# Altium schematic symbol library Intelliclone.SchLib: 488 symbols (part 6 of 6)
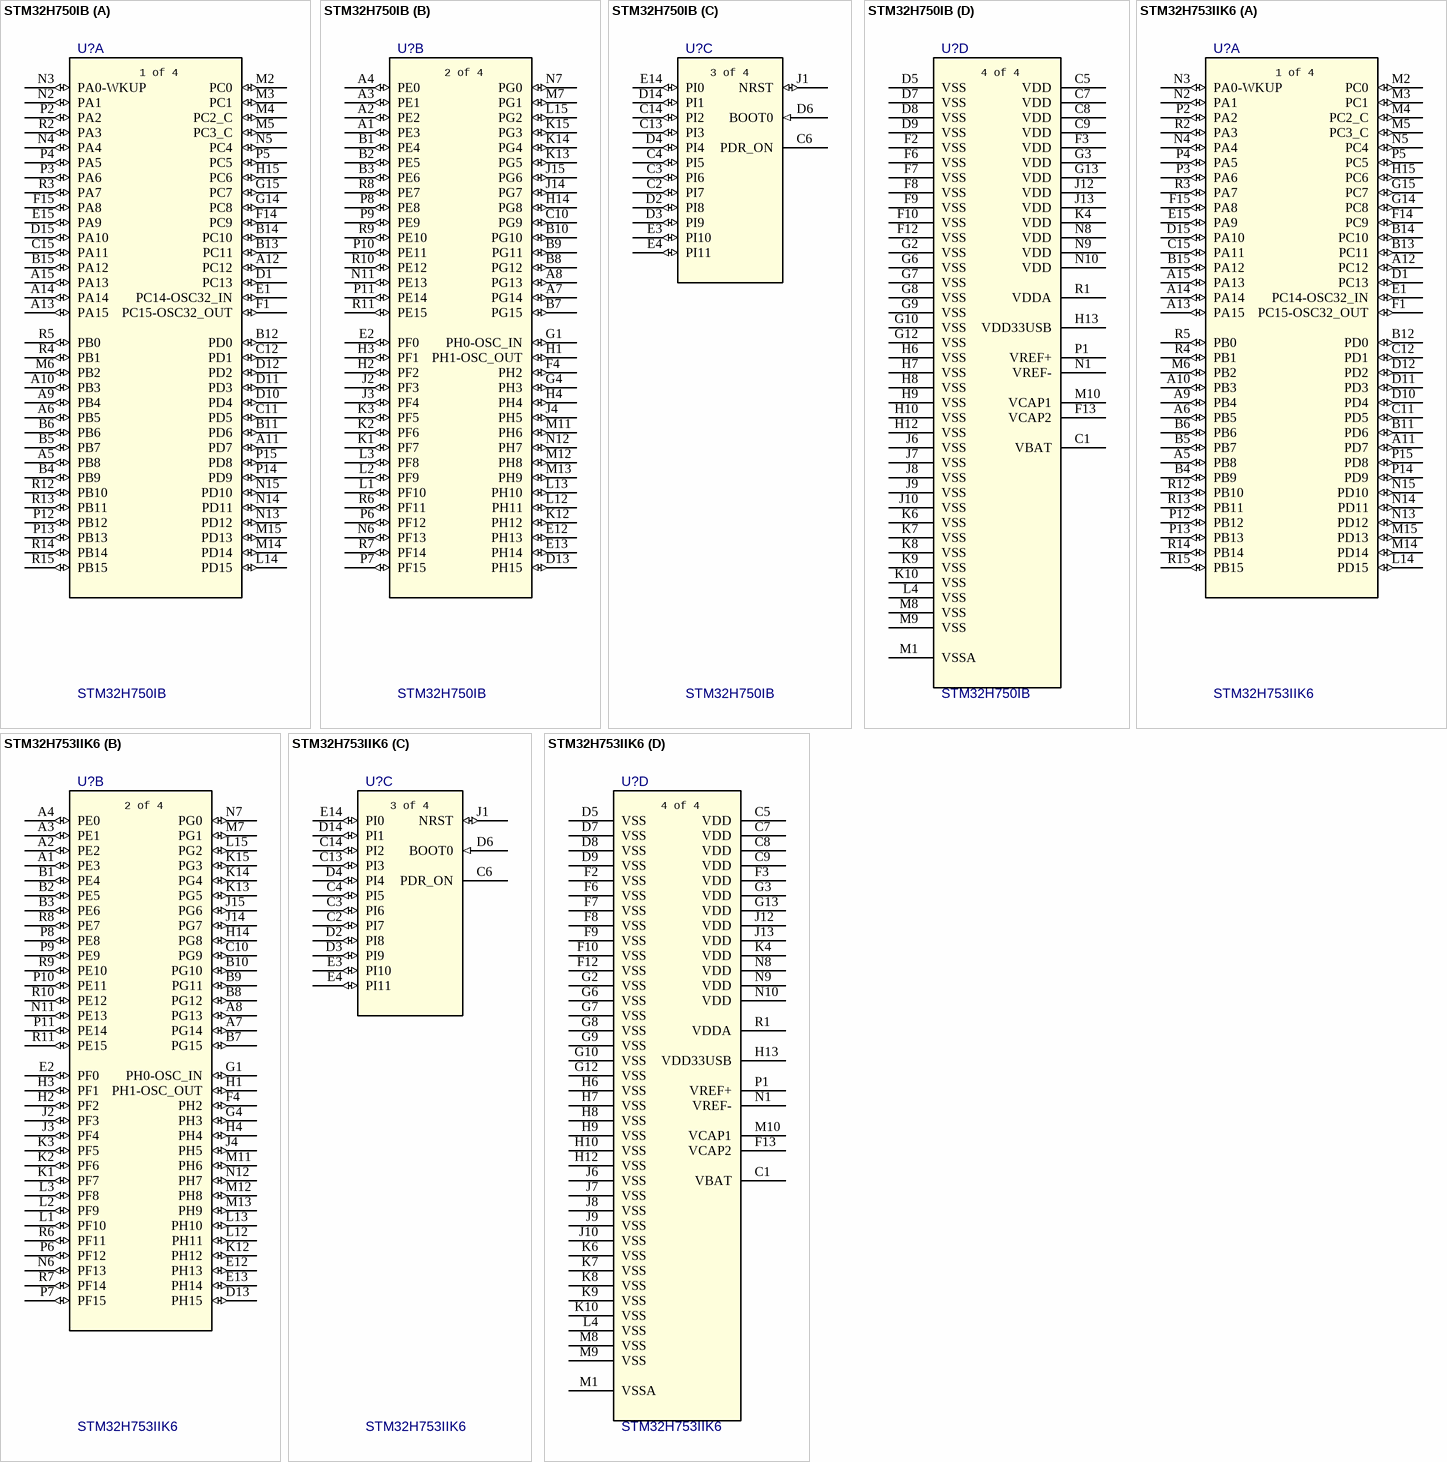
[diagram p26: symbols STM32H750IB to STM32H753IIK6]

## STM32H753IIK6
designator U?
MCU 32-bit ARM Cortex M7 RISC 2MB Flash 3.3V 201-Pin UFBGA; Manufacturer 1: ST Microelectronics; CMT Part Number: 100207; Value: STM32H753IIK6; Manufacturer Part Number 1: STM32H753IIK6; Supplier 1: Arrow; Supplier Part Number 1: STM32H753IIK6
footprint UFBGA 10X10 P 0_
part A pins: A5 PB8 (io), A6 PB5 (io), A9 PB4 (io), A10 PB3 (io), A11 PD7 (io), A12 PC12 (io), A13 PA15 (io), A14 PA14 (io), A15 PA13 (io), B4 PB9 (io), B5 PB7 (io), B6 PB6 (io), B11 PD6 (io), B12 PD0 (io), B13 PC11 (io), B14 PC10 (io), B15 PA12 (io), C11 PD5 (io), C12 PD1 (io), C15 PA11 (io), D1 PC13 (io), D10 PD4 (io), D11 PD3 (io), D12 PD2 (io), D15 PA10 (io), E1 PC14-OSC32_IN (io), E15 PA9 (io), F1 PC15-OSC32_OUT (io), F14 PC9 (io), F15 PA8 (io), G14 PC8 (io), G15 PC7 (io), H15 PC6 (io), L14 PD15 (io), M2 PC0 (io), M3 PC1 (io), M4 PC2_C (io), M5 PC3_C (io), M6 PB2 (io), M14 PD14 (io), M15 PD13 (io), N2 PA1 (io), N3 PA0-WKUP (io), N4 PA4 (io), N5 PC4 (io), N13 PD12 (io), N14 PD11 (io), N15 PD10 (io), P2 PA2 (io), P3 PA6 (io), P4 PA5 (io), P5 PC5 (io), P12 PB12 (io), P13 PB13 (io), P14 PD9 (io), P15 PD8 (io), R2 PA3 (io), R3 PA7 (io), R4 PB1 (io), R5 PB0 (io), R12 PB10 (io), R13 PB11 (io), R14 PB14 (io), R15 PB15 (io)
part B pins: A1 PE3 (io), A2 PE2 (io), A3 PE1 (io), A4 PE0 (io), A7 PG14 (io), A8 PG13 (io), B1 PE4 (io), B2 PE5 (io), B3 PE6 (io), B7 PG15 (io), B8 PG12 (io), B9 PG11 (io), B10 PG10 (io), C10 PG9 (io), D13 PH15 (io), E2 PF0 (io), E12 PH13 (io), E13 PH14 (io), F4 PH2 (io), G1 PH0-OSC_IN (io), G4 PH3 (io), H1 PH1-OSC_OUT (io), H2 PF2 (io), H3 PF1 (io), H4 PH4 (io), H14 PG8 (io), J2 PF3 (io), J3 PF4 (io), J4 PH5 (io), J14 PG7 (io), J15 PG6 (io), K1 PF7 (io), K2 PF6 (io), K3 PF5 (io), K12 PH12 (io), K13 PG5 (io), K14 PG4 (io), K15 PG3 (io), L1 PF10 (io), L2 PF9 (io), L3 PF8 (io), L12 PH11 (io), L13 PH10 (io), L15 PG2 (io), M7 PG1 (io), M11 PH6 (io), M12 PH8 (io), M13 PH9 (io), N6 PF13 (io), N7 PG0 (io), N11 PE13 (io), N12 PH7 (io), P6 PF12 (io), P7 PF15 (io), P8 PE8 (io), P9 PE9 (io), P10 PE11 (io), P11 PE14 (io), R6 PF11 (io), R7 PF14 (io), R8 PE7 (io), R9 PE10 (io), R10 PE12 (io), R11 PE15 (io)
part C pins: C2 PI7 (io), C3 PI6 (io), C4 PI5 (io), C6 PDR_ON, C13 PI3 (io), C14 PI2 (io), D2 PI8 (io), D3 PI9 (io), D4 PI4 (io), D6 BOOT0 (in), D14 PI1 (io), E3 PI10 (io), E4 PI11 (io), E14 PI0 (io), J1 NRST (io)
part D pins: C1 VBAT (power), C5 VDD (power), C7 VDD (power), C8 VDD (power), C9 VDD (power), D5 VSS (power), D7 VSS (power), D8 VSS (power), D9 VSS (power), F2 VSS (power), F3 VDD (power), F6 VSS (power), F7 VSS (power), F8 VSS (power), F9 VSS (power), F10 VSS (power), F12 VSS (power), F13 VCAP2 (power), G2 VSS (power), G3 VDD (power), G6 VSS (power), G7 VSS (power), G8 VSS (power), G9 VSS (power), G10 VSS (power), G12 VSS (power), G13 VDD (power), H6 VSS (power), H7 VSS (power), H8 VSS (power), H9 VSS (power), H10 VSS (power), H12 VSS (power), H13 VDD33USB (power), J6 VSS (power), J7 VSS (power), J8 VSS (power), J9 VSS (power), J10 VSS (power), J12 VDD (power), J13 VDD (power), K4 VDD (power), K6 VSS (power), K7 VSS (power), K8 VSS (power), K9 VSS (power), K10 VSS (power), L4 VSS (power), M1 VSSA (power), M8 VSS (power), M9 VSS (power), M10 VCAP1 (power), N1 VREF- (power), N8 VDD (power), N9 VDD (power), N10 VDD (power), P1 VREF+ (power), R1 VDDA (power)
part A text: 1 of 4
part B text: 2 of 4
part C text: 3 of 4
part D text: 4 of 4

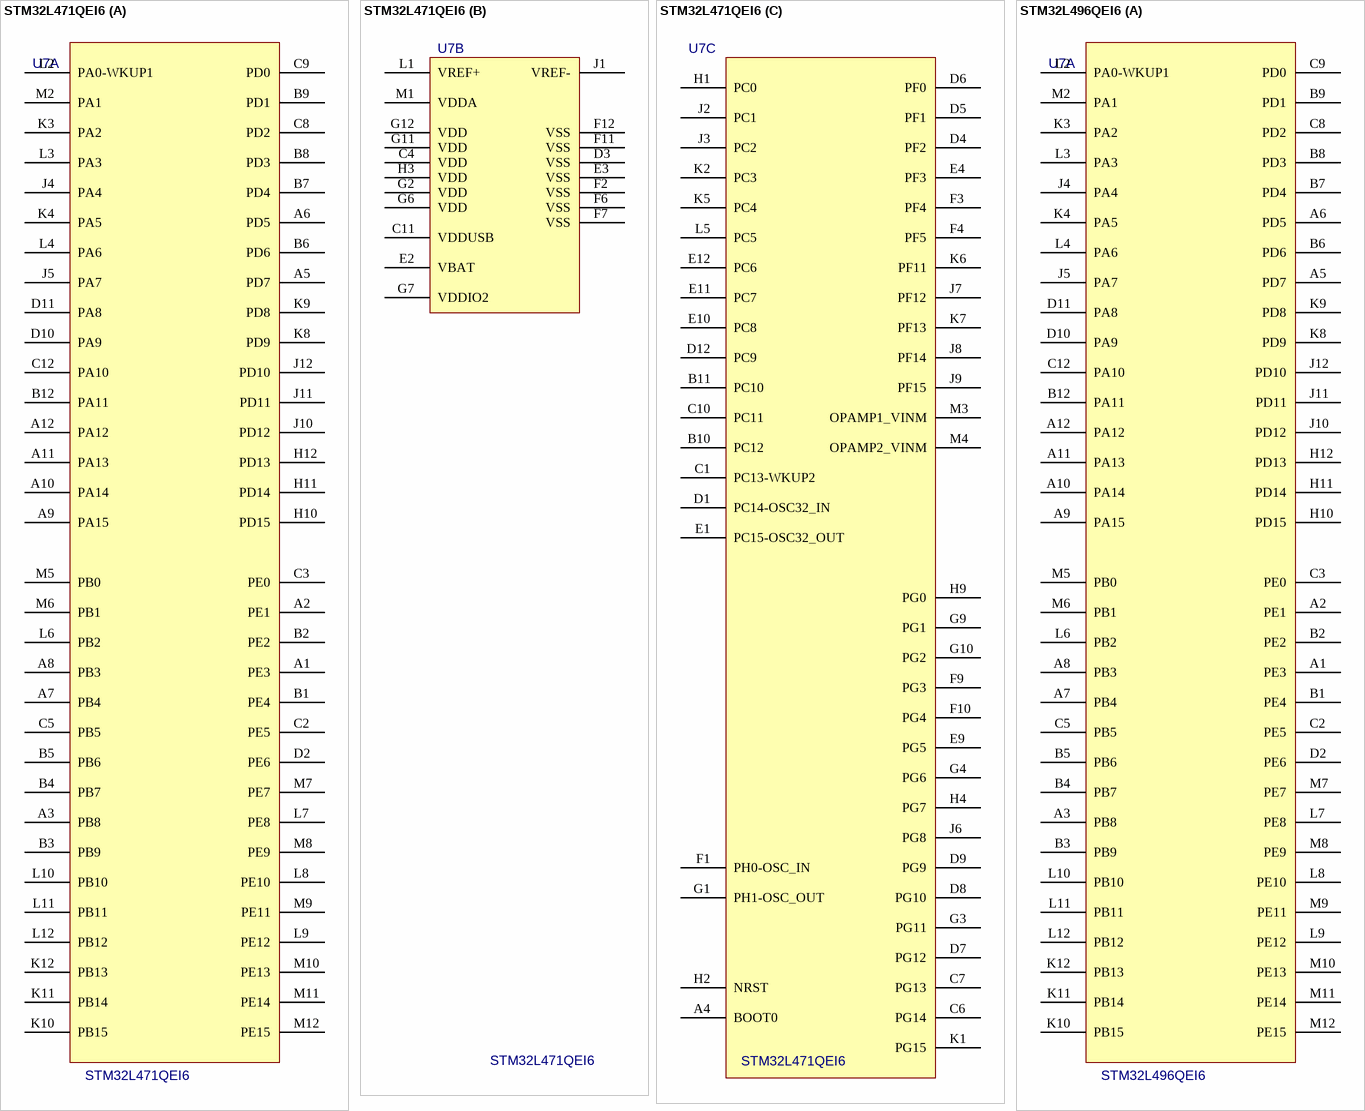
[diagram p18: symbols STM32L471QEI6 to STM32L496QEI6]

## STM32L471QEI6
designator U7
IC ULTRA-LOW-POWER WITH FPU ARM CORE; Manufacturer 1: ST; Manufacturer Part Number 1: STM32L471QEI6; Value: STM32L471QEI6; Supplier 1: Newark; Supplier Part Number 1: 79Y6021
footprint BGA132C50P12X12_700X700X60 (BGA, 132-Leads, Body 7.00x7.00mmx0.60mm, Pitch 0.50mm); pin to pad 1>B2 2>A1 3>B1 4>C2 5>D2 6>E2 7>C1 8>D1 9>E1 10>D6 11>D5 12>D4 13>E4 14>F3 15>F4 16>F2 17>G2 18>none 19>none 20>none 21>none 22>none 23>F1 24>G1 25>H2 26>H1 27>J2 28>J3 29>K2 30>none 31>J1 32>L1 33>M1 34>L2 35>M2 36>K3 37>L3 38>E3 39>H3 40>J4 41>K4 42>L4 43>J5 44>K5 45>L5 46>M5 47>M6 48>L6 49>K6 50>J7 51>none 52>none 53>K7 54>J8 55>J9 56>H9 57>G9 58>M7 59>PE8 60>PE9 61>F6 62>G6 63>L8 64>M9 65>L9 66>M10 67>M11 68>M12 69>L10 70>L11 71>F12 72>G12 73>L12 74>K12 75>K11 76>K10 77>K9 78>K8 79>J12 80>J11 81>J10 82>H12 83>none 84>none 85>H11 86>H10 87>G10 88>F9 89>F10 90>E9 91>G4 92>H4 93>J6 94>none 95>none 96>E12 97>E11 98>E10 99>D12 100>D11 101>D10 102>C12 103>B12 104>A12 105>A11 106>C11 107>F11 108>G11 109>A10 110>A9 111>B11 112>C10 113>B10 114>C9 115>B9 116>C8 117>B8 118>B7 119>A6 120>none 121>none 122>B6 123>A5 124>none 125>none 126>none 127>D7 128>C7 129>C6 130>F7 131>G7 132>K1 133>A8 134>A7 135>C5 136>B5 137>B4 138>A4 139>A3 140>B3 141>C3 142>A2 143>D3 144>C4
part A pins: A1 PE3, A2 PE1, A3 PB8, A5 PD7, A6 PD5, A7 PB4, A8 PB3, A9 PA15, A10 PA14, A11 PA13, A12 PA12, B1 PE4, B2 PE2, B3 PB9, B4 PB7, B5 PB6, B6 PD6, B7 PD4, B8 PD3, B9 PD1, B12 PA11, C2 PE5, C3 PE0, C5 PB5, C8 PD2, C9 PD0, C12 PA10, D2 PE6, D10 PA9, D11 PA8, H10 PD15, H11 PD14, H12 PD13, J4 PA4, J5 PA7, J10 PD12, J11 PD11, J12 PD10, K3 PA2, K4 PA5, K8 PD9, K9 PD8, K10 PB15, K11 PB14, K12 PB13, L2 PA0-WKUP1, L3 PA3, L4 PA6, L6 PB2, L7 PE8, L8 PE10, L9 PE12, L10 PB10, L11 PB11, L12 PB12, M2 PA1, M5 PB0, M6 PB1, M7 PE7, M8 PE9, M9 PE11, M10 PE13, M11 PE14, M12 PE15
part B pins: C4 VDD, C11 VDDUSB, D3 VSS, E2 VBAT, E3 VSS, F2 VSS, F6 VSS, F7 VSS, F11 VSS, F12 VSS, G2 VDD, G6 VDD, G7 VDDIO2, G11 VDD, G12 VDD, H3 VDD, J1 VREF-, L1 VREF+, M1 VDDA
part C pins: A4 BOOT0, B10 PC12, B11 PC10, C1 PC13-WKUP2, C6 PG14, C7 PG13, C10 PC11, D1 PC14-OSC32_IN, D4 PF2, D5 PF1, D6 PF0, D7 PG12, D8 PG10, D9 PG9, D12 PC9, E1 PC15-OSC32_OUT, E4 PF3, E9 PG5, E10 PC8, E11 PC7, E12 PC6, F1 PH0-OSC_IN, F3 PF4, F4 PF5, F9 PG3, F10 PG4, G1 PH1-OSC_OUT, G3 PG11, G4 PG6, G9 PG1, G10 PG2, H1 PC0, H2 NRST, H4 PG7, H9 PG0, J2 PC1, J3 PC2, J6 PG8, J7 PF12, J8 PF14, J9 PF15, K1 PG15, K2 PC3, K5 PC4, K6 PF11, K7 PF13, L5 PC5, M3 OPAMP1_VINM, M4 OPAMP2_VINM

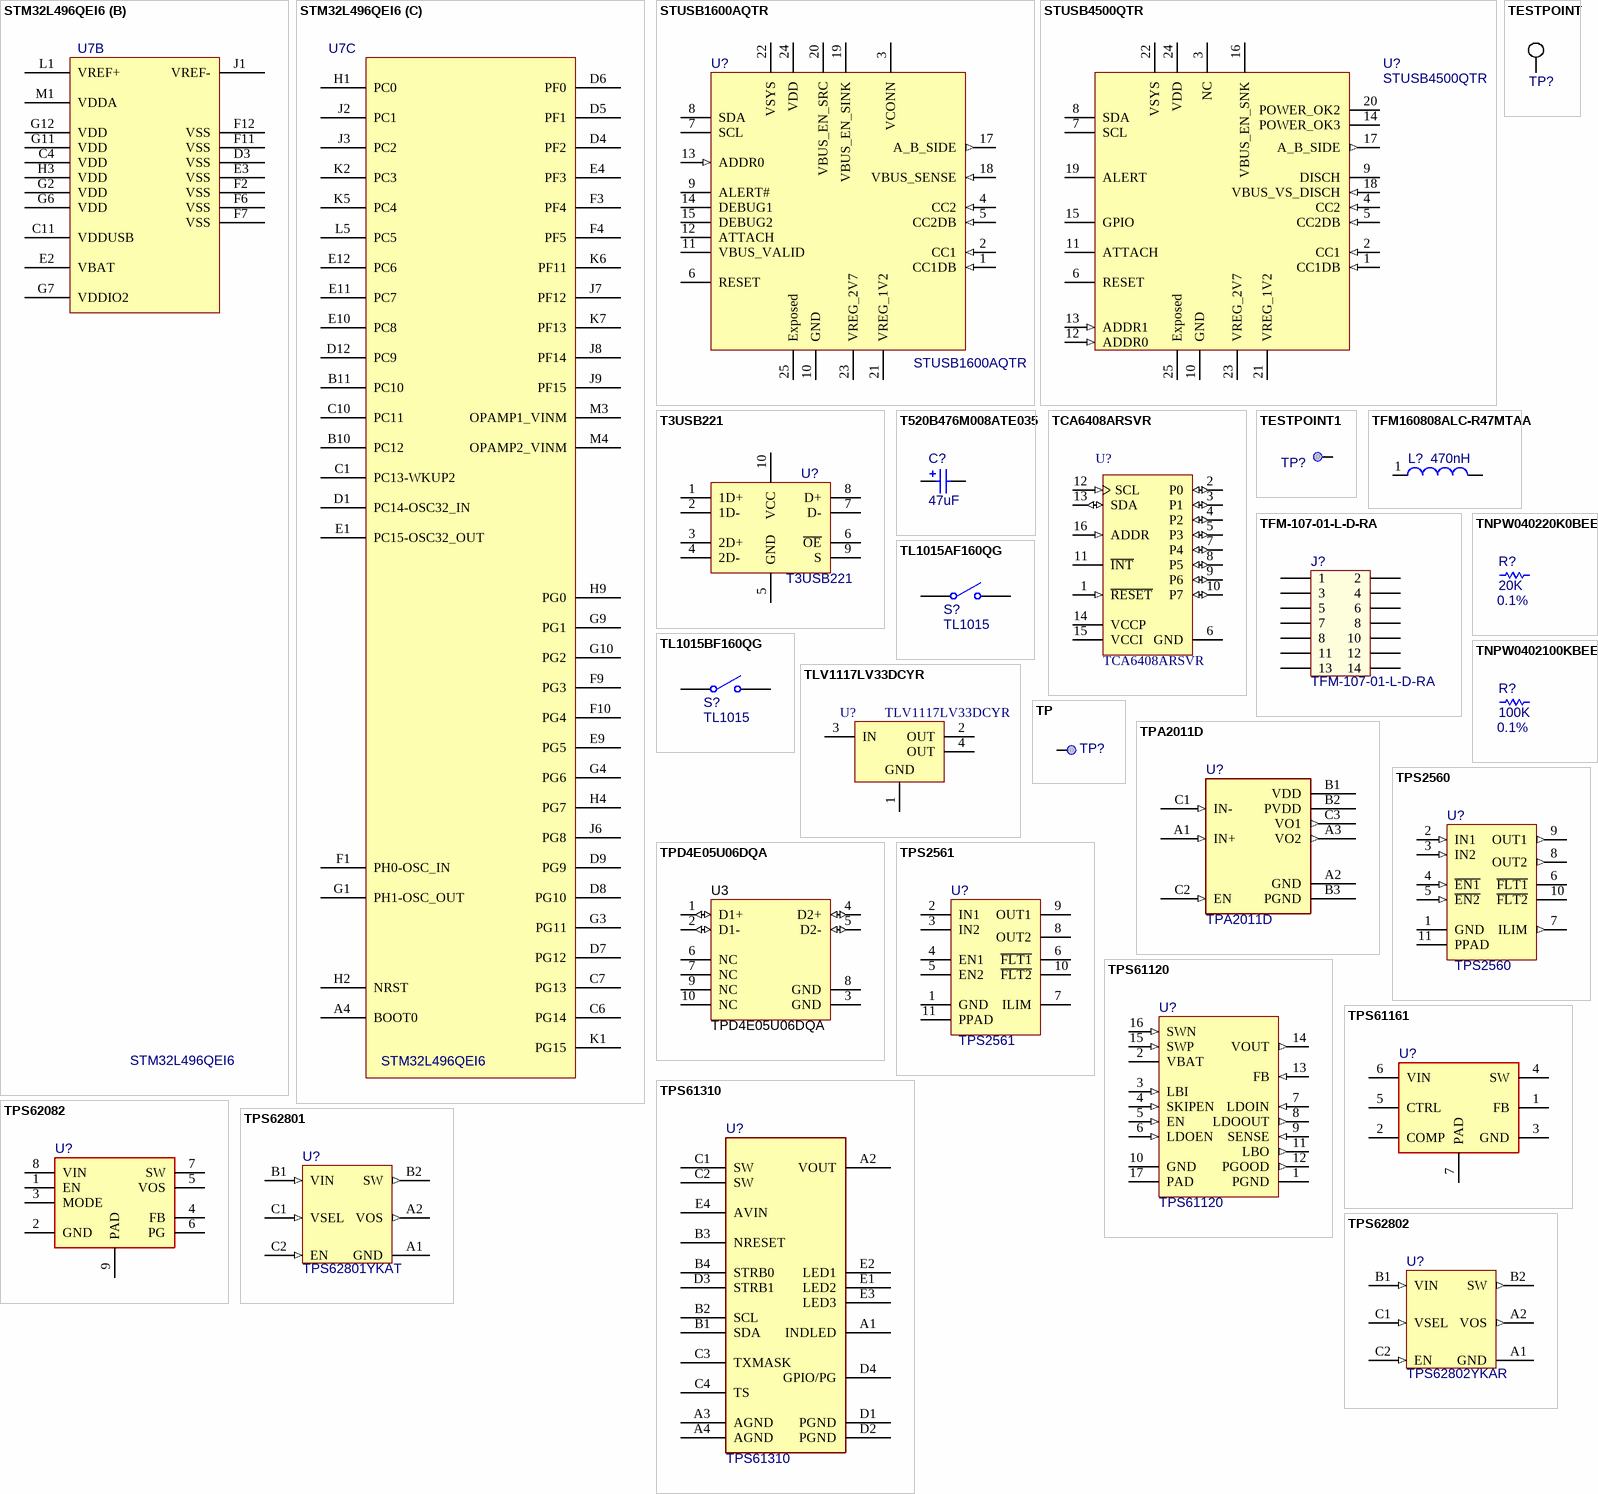
[diagram p19: symbols STM32L496QEI6 to TPS62802]

## STM32L496QEI6
designator U7
IC ULTRA-LOW-POWER WITH FPU ARM CORE; Manufacturer 1: ST; Manufacturer Part Number 1: STM32L496QEI6; Value: STM32L496QEI6; Supplier 1: Newark; Supplier Part Number 1: 17AC5581
footprint BGA132C50P12X12_700X700X60 (BGA, 132-Leads, Body 7.00x7.00mmx0.60mm, Pitch 0.50mm); pin to pad 1>B2 2>A1 3>B1 4>C2 5>D2 6>E2 7>C1 8>D1 9>E1 10>D6 11>D5 12>D4 13>E4 14>F3 15>F4 16>F2 17>G2 18>none 19>none 20>none 21>none 22>none 23>F1 24>G1 25>H2 26>H1 27>J2 28>J3 29>K2 30>none 31>J1 32>L1 33>M1 34>L2 35>M2 36>K3 37>L3 38>E3 39>H3 40>J4 41>K4 42>L4 43>J5 44>K5 45>L5 46>M5 47>M6 48>L6 49>K6 50>J7 51>none 52>none 53>K7 54>J8 55>J9 56>H9 57>G9 58>M7 59>PE8 60>PE9 61>F6 62>G6 63>L8 64>M9 65>L9 66>M10 67>M11 68>M12 69>L10 70>L11 71>F12 72>G12 73>L12 74>K12 75>K11 76>K10 77>K9 78>K8 79>J12 80>J11 81>J10 82>H12 83>none 84>none 85>H11 86>H10 87>G10 88>F9 89>F10 90>E9 91>G4 92>H4 93>J6 94>none 95>none 96>E12 97>E11 98>E10 99>D12 100>D11 101>D10 102>C12 103>B12 104>A12 105>A11 106>C11 107>F11 108>G11 109>A10 110>A9 111>B11 112>C10 113>B10 114>C9 115>B9 116>C8 117>B8 118>B7 119>A6 120>none 121>none 122>B6 123>A5 124>none 125>none 126>none 127>D7 128>C7 129>C6 130>F7 131>G7 132>K1 133>A8 134>A7 135>C5 136>B5 137>B4 138>A4 139>A3 140>B3 141>C3 142>A2 143>D3 144>C4
part A pins: A1 PE3, A2 PE1, A3 PB8, A5 PD7, A6 PD5, A7 PB4, A8 PB3, A9 PA15, A10 PA14, A11 PA13, A12 PA12, B1 PE4, B2 PE2, B3 PB9, B4 PB7, B5 PB6, B6 PD6, B7 PD4, B8 PD3, B9 PD1, B12 PA11, C2 PE5, C3 PE0, C5 PB5, C8 PD2, C9 PD0, C12 PA10, D2 PE6, D10 PA9, D11 PA8, H10 PD15, H11 PD14, H12 PD13, J4 PA4, J5 PA7, J10 PD12, J11 PD11, J12 PD10, K3 PA2, K4 PA5, K8 PD9, K9 PD8, K10 PB15, K11 PB14, K12 PB13, L2 PA0-WKUP1, L3 PA3, L4 PA6, L6 PB2, L7 PE8, L8 PE10, L9 PE12, L10 PB10, L11 PB11, L12 PB12, M2 PA1, M5 PB0, M6 PB1, M7 PE7, M8 PE9, M9 PE11, M10 PE13, M11 PE14, M12 PE15
part B pins: C4 VDD, C11 VDDUSB, D3 VSS, E2 VBAT, E3 VSS, F2 VSS, F6 VSS, F7 VSS, F11 VSS, F12 VSS, G2 VDD, G6 VDD, G7 VDDIO2, G11 VDD, G12 VDD, H3 VDD, J1 VREF-, L1 VREF+, M1 VDDA
part C pins: A4 BOOT0, B10 PC12, B11 PC10, C1 PC13-WKUP2, C6 PG14, C7 PG13, C10 PC11, D1 PC14-OSC32_IN, D4 PF2, D5 PF1, D6 PF0, D7 PG12, D8 PG10, D9 PG9, D12 PC9, E1 PC15-OSC32_OUT, E4 PF3, E9 PG5, E10 PC8, E11 PC7, E12 PC6, F1 PH0-OSC_IN, F3 PF4, F4 PF5, F9 PG3, F10 PG4, G1 PH1-OSC_OUT, G3 PG11, G4 PG6, G9 PG1, G10 PG2, H1 PC0, H2 NRST, H4 PG7, H9 PG0, J2 PC1, J3 PC2, J6 PG8, J7 PF12, J8 PF14, J9 PF15, K1 PG15, K2 PC3, K5 PC4, K6 PF11, K7 PF13, L5 PC5, M3 OPAMP1_VINM, M4 OPAMP2_VINM

## STUSB1600AQTR
designator U?
IC CTLR USB TYPE-C 24QFN; Manufacturer 1: ST Microelectronics; Manufacturer Part Number 1: STUSB1600AQTR; Value: STUSB1600AQTR; Supplier 1: Digi-Key; Supplier Part Number 1: 497-17647-1-ND
pins: 1 CC1DB (in), 2 CC1 (in), 3 VCONN (power), 4 CC2 (in), 5 CC2DB (in), 6 RESET (oc), 7 SCL (oc), 8 SDA (oc), 9 ALERT# (oc), 10 GND (power), 11 VBUS_VALID (oc), 12 ATTACH (oc), 13 ADDR0 (in), 14 DEBUG1 (oc), 15 DEBUG2 (oc), 17 A_B_SIDE (out), 18 VBUS_SENSE (in), 19 VBUS_EN_SINK (power), 20 VBUS_EN_SRC (power), 21 VREG_1V2 (power), 22 VSYS (power), 23 VREG_2V7 (power), 24 VDD (power), 25 Exposed (power)

## STUSB4500QTR
designator U?
IC CTLR USB TYPE-C 24QFN; Manufacturer 1: ST Microelectronics; CMT Part Number: 100214; Manufacturer Part Number 1: STUSB4500QTR; Value: STUSB4500QTR; Supplier 1: Digi-Key; Supplier Part Number 1: 497-18060-1-ND
footprint QFN50P400X400X80_HS-25N (QFN, 24-Leads, Body 4.00x4.00mm, Pitch 0.50mm, Thermal Pad 2.70x2.70mm, IPC Medium Density)
pins: 1 CC1DB (in), 2 CC1 (in), 3 NC (hiz), 4 CC2 (in), 5 CC2DB (in), 6 RESET (oc), 7 SCL (oc), 8 SDA (oc), 9 DISCH (oc), 10 GND (power), 11 ATTACH (oc), 12 ADDR0 (in), 13 ADDR1 (in), 14 POWER_OK3 (oc), 15 GPIO (oc), 16 VBUS_EN_SNK (oc), 17 A_B_SIDE (out), 18 VBUS_VS_DISCH (in), 19 ALERT (oc), 20 POWER_OK2 (power), 21 VREG_1V2 (power), 22 VSYS (power), 23 VREG_2V7 (power), 24 VDD (power), 25 Exposed (power)

## T3USB221
designator U?
IC USB SWITCH DUAL 1X2 10UQFN; Manufacturer Part Number 1: TS3USB221RSER; Manufacturer 1: Texas Instruments; Value: T3USB221; Supplier 1: Digi-Key; Supplier Part Number 1: 296-21918-1-ND; Supplier 2: Mouser; Supplier Part Number 2: 595-TS3USB221RSER
footprint PUQFN-N10
pins: 1 1D+, 2 1D-, 3 2D+, 4 2D-, 5 GND, 6 ~{OE}, 7 D-, 8 D+, 9 S, 10 VCC

## T520B476M008ATE035
designator C?, comment 47uF
CAP TANT 47UF 8V 20% 1411; Manufacturer Part Number 1: T520B476M008ATE035; Manufacturer 1: Kemet; Supplier 1: Digi-Key; Supplier Part Number 1: 399-4979-1-ND; Supplier 2: Mouser; Supplier Part Number 2: 80-T520B476M8ATE35; Value: 47uF
footprint C0805 (Chip Capacitor; Body 2.0 x 1.2 mm (LxW typ))
footprint 1812 (Chip Capacitor; Body 4.5 x 3.2 mm (LxW typ))
footprint 1825 (Chip Capacitor; Body 4.5 x 6.4 mm (LxW typ))
footprint C2225 (Chip Capacitor; Body 5.6 x 6.4 mm (LxW typ))
footprint 2220 (Chip Capacitor; Body 5.7 x 5.0 mm (LxW typ))
simulation model CAP (Capacitor)
signal-integrity model Cap Pol
footprint CAPMP3528X120N
pins: 1, 2
1 alternate drawing of the same symbol

## TCA6408ARSVR
designator U?
IC I/O EXPANDER I2C 8B 16QFN; Manufacturer 1: Texas Instruments; ComponentLink2URL: http://www.ti.com/litv/pdf/mpqf115g; ComponentLink1Description: Datasheet; ComponentLink1URL: http://www.ti.com/general/docs/lit/getliterature.tsp?genericPartNumber=TCA6408A&fileType=pdf; ComponentLink2Description: Package Specification; Supplier 1: Digi-Key; Supplier Part Number 1: 296-24328-2-ND; Manufacturer Part Number 1: TCA6408ARSVR
footprint RSV0016A_V (QFN, 16-Leads, Body 1.8x2.6mm, Pitch 0.4mm, TI Recommended)
pins: 1 ~{RESET} (in) "Active-low reset input. Connect to VCC  through a pullup resistor, if no active connection is used.", 2 P0 (io) "P-port input/output. (Push-pull design structure.) At power on, P0 is configured as an input.", 3 P1 (io) "P-port input/output. (Push-pull design structure.) At power on, P1 is configured as an input.", 4 P2 (io) "P-port input/output. (Push-pull design structure.) At power on, P2 is configured as an input.", 5 P3 (io) "P-port input/output. (Push-pull design structure.) At power on, P3 is configured as an input.", 6 GND (power) "Ground", 7 P4 (io) "P-port input/output. (Push-pull design structure.) At power on, P4 is configured as an input.", 8 P5 (io) "P-port input/output. (Push-pull design structure.) At power on, P5 is configured as an input.", 9 P6 (io) "P-port input/output. (Push-pull design structure.) At power on, P6 is configured as an input.", 10 P7 (io) "P-port input/output. (Push-pull design structure.) At power on, P7 is configured as an input.", 11 ~{INT} (oc) "Interrupt output. Connect to VCCI through a pullup resistor.", 12 SCL (in) "Serial clock bus. Connect to VCCI through a pullup resistor.", 13 SDA (io) "Serial data bus. Connect to VCCI through a pullup resistor.", 14 VCCP (power) "Supply voltage of TCA6408A for P port", 15 VCCI (power) "Supply voltage of I2C bus. Connect directly to the VCCI of the external I2C master. Provides voltage leveltranslation", 16 ADDR (in) "Address input. Connect directly to VCCI or ground"

## TESTPOINT
designator TP?  (value not drawn)
TEST POINT; Manufacturer 1: N/A; Manufacturer Part Number 1: N/A; Value: Testpoint
footprint TP/SMALL
pins: 1

## TESTPOINT1
designator TP?, comment Testpoint  (value not drawn)  (mechanical)
TESTPOINT SMT SMALL; Manufacturer 1: NONE; Manufacturer Part Number 1: NONE; Value: Testpoint
footprint TP (Footprint not found)
footprint TP/SMALL (Footprint not found)
footprint TP/SMT
pins: 1

## TFM160808ALC-R47MTAA
designator L?, comment 470nH
FIXED IND 470NH 2.7A 62 MOHM SMD; Manufacturer 1: TDK; Manufacturer Part Number 1: TFM160808ALC-R47MTAA; CMT Part Number: 100243; DC Resistance (DCR): 62mR; Case/Package: 0604; Supplier 1: Digi-Key; Supplier Part Number 1: 445-174891-6-ND; Value: 470nH
footprint 0603CS Inductor
pins: 1, 2

## TFM-107-01-L-D-RA
designator J?
CONN HEADER .050 X .050 MICRO STRIPS; Value: TFM-107-01-L-D-RA; Part Type: Connector; Supplier 1: Newark; Supplier Part Number 1: 74T1098
footprint TFM-107-01-L-D-RA (Sametec TFM-107-01-L-D-RA)
footprint TFM-107-01-L-D-RA (Sametec TFM-107-01-L-D-RA)
pins: 1, 2, 3, 4, 5, 6, 7, 8, 9 8, 10, 11, 12, 13, 14
1 alternate drawing of the same symbol

## TL1015AF160QG
designator S?, comment TL1015
SWITCH TACT TOP ACT 160GF SMD; Manufacturer Part Number 1: TL1015AF160QG; Manufacturer 1: E-Switch; CMT Part Number: 100204; Value: TL1015AF160QG; Supplier 1: Digi-Key; Supplier Part Number 1: EG4344CT-ND; Supplier 2: Mouser; Supplier Part Number 2: 612-TL1015AF
footprint TL015AF (TL1015 Momentary Tactile Switch)
pins: 1 COMMON, 2 NO

## TL1015BF160QG
designator S?, comment TL1015
SWITCH TACT TOP ACT 160GF SMD; Manufacturer Part Number 1: TL1015BF160QG; Manufacturer 1: E-Switch; Value: TL1015BF160QG; Supplier 1: Digi-Key; Supplier Part Number 1: EG4345CT-ND; Supplier 2: Mouser; Supplier Part Number 2: 612-TL1015BF
footprint TL1015 (TL1015 Momentary Tactile Switch)
pins: 1 COMMON, 2 NO

## TLV1117LV33DCYR
designator U?
IC REG LINEAR 3.3V 1A SOT223-4; Manufacturer 1: Texas Instruments; ComponentLink2Description: Datasheet; ComponentLink1Description: Manufacturer URL; Manufacturer Part Number 1: TLV1117LV33DCYR; ComponentLink3Description: Package Specification; ComponentLink1URL: http://www.ti.com/; ComponentLink2URL: http://www.ti.com/general/docs/lit/getliterature.tsp?genericPartNumber=TLV1117LV33&fileType=pdf; ComponentLink3URL: http://www.ti.com/litv/pdf/mpds094a; Supplier 1: Digi-Key; Supplier Part Number 1: 296-28778-2-ND
footprint DCY0004A_M (SOT223, 4-Leads, Body 6.7x3.7mm, Pitch 2.3mm, IPC Low Density)
footprint DCY0004A_N (SOT223, 4-Leads, Body 6.7x3.7mm, Pitch 2.3mm, IPC Medium Density)
footprint DCY0004A_L (SOT223, 4-Leads, Body 6.7x3.7mm, Pitch 2.3mm, IPC High Density)
pins: 1 GND (power) "Ground pin", 2 OUT (power) "Regulated output voltage pin.", 3 IN (power) "Input pin.", 4 OUT (power) "Regulated output voltage pin."

## TNPW040220K0BEED
designator R?, comment Tolerance: 0.1%  (hidden comment: 20K)
RES 20.0K OHM 1/16W 0.1% 0402; Manufacturer Part Number 1: TNPW040220K0BEED; Manufacturer 1: Vishay/Dale; Supplier 1: Digi-Key; Supplier Part Number 1: TNP20.0KDACT-ND; Supplier 2: Mouser; Supplier Part Number 2: 71-TNPW040220K0BEED; Value: 20K
footprint 0402 Resistor
footprint RESC0603N (Chip Resistor, Body 0.6x0.3mm, IPC Medium Density)
footprint 1005[0402] (Chip Resistor; Body 1.1 x 0.5 mm (LxW typ))
pins: 1, 2

## TNPW0402100KBEED
designator R?, comment Tolerance: 0.1%  (hidden comment: 100K)
RES 100K OHM 1/16W 0.1% 0402; Manufacturer Part Number 1: TNPW0402100KBEED; Manufacturer 1: Vishay/Dale; Supplier 1: Digi-Key; Supplier Part Number 1: TNP100KDACT-ND; Supplier 2: Mouser; Supplier Part Number 2: 71-TNPW0402100KBEED; Value: 100K
footprint 0402 Resistor
footprint RESC0603N (Chip Resistor, Body 0.6x0.3mm, IPC Medium Density)
footprint 1005[0402] (Chip Resistor; Body 1.1 x 0.5 mm (LxW typ))
pins: 1, 2

## TP
designator TP?, comment Testpoint  (value not drawn)
TEST POINT; Manufacturer 1: N/A; Manufacturer Part Number 1: N/A; Value: Testpoint
footprint TP/SMALL
footprint TP/SMT
pins: 1

## TPA2011D
designator U?
IC AMP AUDIO PWR 3.2W D 9DSBGA; Manufacturer 1: Texas Instruments; Manufacturer Part Number 1: TPA2011D1YFFT; Supplier 1: Digi-Key; Supplier Part Number 1: 296-32450-1-ND; Supplier 2: Mouser; Supplier Part Number 2: 595-TPA2011D1YFFT; Value: TPA2011D
footprint BGA9C40P3X3_121X116X62 (BGA, 9-Leads, Body 1.21x1.16mmx0.63mm, Pitch 0.40mm)
pins: A1 IN+ (in), A2 GND (power), A3 VO2 (out), B1 VDD (power), B2 PVDD (power), B3 PGND (power), C1 IN- (in), C2 EN (in), C3 VO1 (out)

## TPD4E05U06DQA
designator U3
TVS DIODE 5.5VWM 14VC 10SON; Manufacturer 1: Texas Instruments; Value: TPD4E05U06DQA; Manufacturer Part Number 1: TPD4E05U06DQA; Supplier 1: Digi-Key; Supplier Part Number 1: 296-35765-1-ND
footprint DQA0010A
pins: 1 D1+ (io), 2 D1- (io), 3 GND (power), 4 D2+ (io), 5 D2- (io), 6 NC, 7 NC, 8 GND (power), 9 NC, 10 NC

## TPS2560
designator U?
IC POWER DIST SWITCH ADJ 10SON; Manufacturer 1: Texas Instruments; Manufacturer Part Number 1: TPS2560DRCR; Value: TPS2560; Supplier 1: Digi-Key; Supplier Part Number 1: 296-39383-1-ND
footprint DRC0010J_V (SON, 10-Leads, Body 3x3mm, Pitch 0.5mm, Thermal Pad 2.4x1.65mm, TI Recommended)
pins: 1 GND (power), 2 IN1 (in), 3 IN2 (in), 4 ~{EN1} (in), 5 ~{EN2} (in), 6 ~{FLT1} (oc), 7 ILIM (out), 8 OUT2 (out), 9 OUT1 (out), 10 ~{FLT2} (oc), 11 PPAD (power)

## TPS2561
designator U?
IC POWER DIST SWITCH ADJ 10SON; Manufacturer 1: Texas Instruments; Manufacturer Part Number 1: TPS2561DRCR; Value: TPS2561; Supplier 1: Digi-Key; Supplier Part Number 1: 296-43616-1-ND
footprint SON50P300X100_HS-11N-2 (SON, 10-Leads, Body 3.00x3.00mm, Pitch 0.50mm, Thermal Pad 1.65x1.54mm, IPC Medium Density)
pins: 1 GND, 2 IN1, 3 IN2, 4 EN1, 5 EN2, 6 ~{FLT1}, 7 ILIM, 8 OUT2, 9 OUT1, 10 ~{FLT2}, 11 PPAD

## TPS61120
designator U?
IC CONV BOOST DUAL-OUT 16-QFN; Manufacturer 1: Texas Instruments; Manufacturer Part Number 1: TPS61120RSAR; Value: TPS61120; Supplier 1: Digi-Key; Supplier Part Number 1: 296-16980-1-ND
footprint QFN65P400X400X85_HS-17N (QFN, 16-Leads, Body 4.00x4.00mm, Pitch 0.65mm, Thermal Pad 2.08x2.08mm, IPC Medium Density)
pins: 1 PGND (power), 2 VBAT (power), 3 LBI (in), 4 SKIPEN (in), 5 EN (in), 6 LDOEN (in), 7 LDOIN (in), 8 LDOOUT (out), 9 SENSE (in), 10 GND (power), 11 LBO (out), 12 PGOOD (out), 13 FB (in), 14 VOUT (out), 15 SWP (in), 16 SWN (in), 17 PAD

## TPS61161
designator U?, comment TPS62082  (value not drawn)
IC LED DRIVER WHITE BCKLGT 6SON; Manufacturer 1: Texas Instruments; Manufacturer Part Number 1: TPS61161DRVR; Part Type: IC; Value: TPS62082; Supplier 1: Digi-Key; Supplier Part Number 1: 296-22943-1-ND; Supplier 2: Mouser; Supplier Part Number 2: 595-TPS61161DRVR
footprint SON65P200X200X100-7N
pins: 1 FB, 2 COMP, 3 GND, 4 SW, 5 CTRL, 6 VIN, 7 PAD

## TPS61310
designator U?
IC LED FLASH DVR WHITE 20DSBGA; Manufacturer 1: Texas Instruements; Manufacturer Part Number 1: TPS61310YFFR; Supplier 1: Digi-Key; Supplier Part Number 1: 296-27243-1-ND; Supplier 2: Mouser; Supplier Part Number 2: 595-TPS61310YFFR
footprint BGA20C40P4X5_194X219X62 (BGA, 20-Leads, Body 1.94x2.19mmx0.63mm, Pitch 0.40mm)
pins: A1 INDLED, A2 VOUT, A3 AGND, A4 AGND, B1 SDA, B2 SCL, B3 NRESET, B4 STRB0, C1 SW, C2 SW, C3 TXMASK, C4 TS, D1 PGND, D2 PGND, D3 STRB1, D4 GPIO/PG, E1 LED2, E2 LED1, E3 LED3, E4 AVIN

## TPS62082
designator U?  (value not drawn)
IC REG BUCK SYNC 3.3V 1.2A 8WSON; Part Type: IC; Value: TPS62082; Supplier 1: Digi-Key; Supplier Part Number 1: 296-29647-1-ND
footprint QFN50P200X200X75_HS-9N (QFN, 8-Leads, Body 2.00x2.00mm, Pitch 0.50mm, Thermal Pad 1.60x0.90mm, IPC Medium Density)
pins: 1 EN, 2 GND, 3 MODE, 4 FB, 5 VOS, 6 PG, 7 SW, 8 VIN, 9 PAD

## TPS62801
designator U?, comment TPS62801YKAT
TINY, 1A ULTRA-LOW IQ STEP-DOWN Adjustable (Fixed) 0.8V (1.2V); Manufacturer 1: Texas Instruments; CMT Part Number: 100256; Supplier 1: Digi-Key; Supplier Part Number 1: 296-48862-6-ND; Manufacturer Part Number 1: TPS62801YKAT; Value: TPS62801YKAT
footprint DSBGA6-0.35mm (BGA, 6-Leads, Body 0.70x1.05mmx0.40mm, Pitch 0.35mm)
pins: A1 GND, A2 VOS (out), B1 VIN (in), B2 SW (out), C1 VSEL (in), C2 EN (in)

## TPS62802
designator U?, comment TPS62802YKAR
TINY, 1A ULTRA-LOW IQ STEP-DOWN Adjustable (Fixed) 1.8V (3.3V); Manufacturer 1: Texas Instruments; CMT Part Number: 100257; Supplier 1: Digi-Key; Supplier Part Number 1: 296-52032-1-ND; Manufacturer Part Number 1: TPS62802YKAR; Value: TPS62802YKAR
footprint DSBGA6-0.35mm (BGA, 6-Leads, Body 0.70x1.05mmx0.40mm, Pitch 0.35mm)
pins: A1 GND, A2 VOS (out), B1 VIN (in), B2 SW (out), C1 VSEL (in), C2 EN (in)

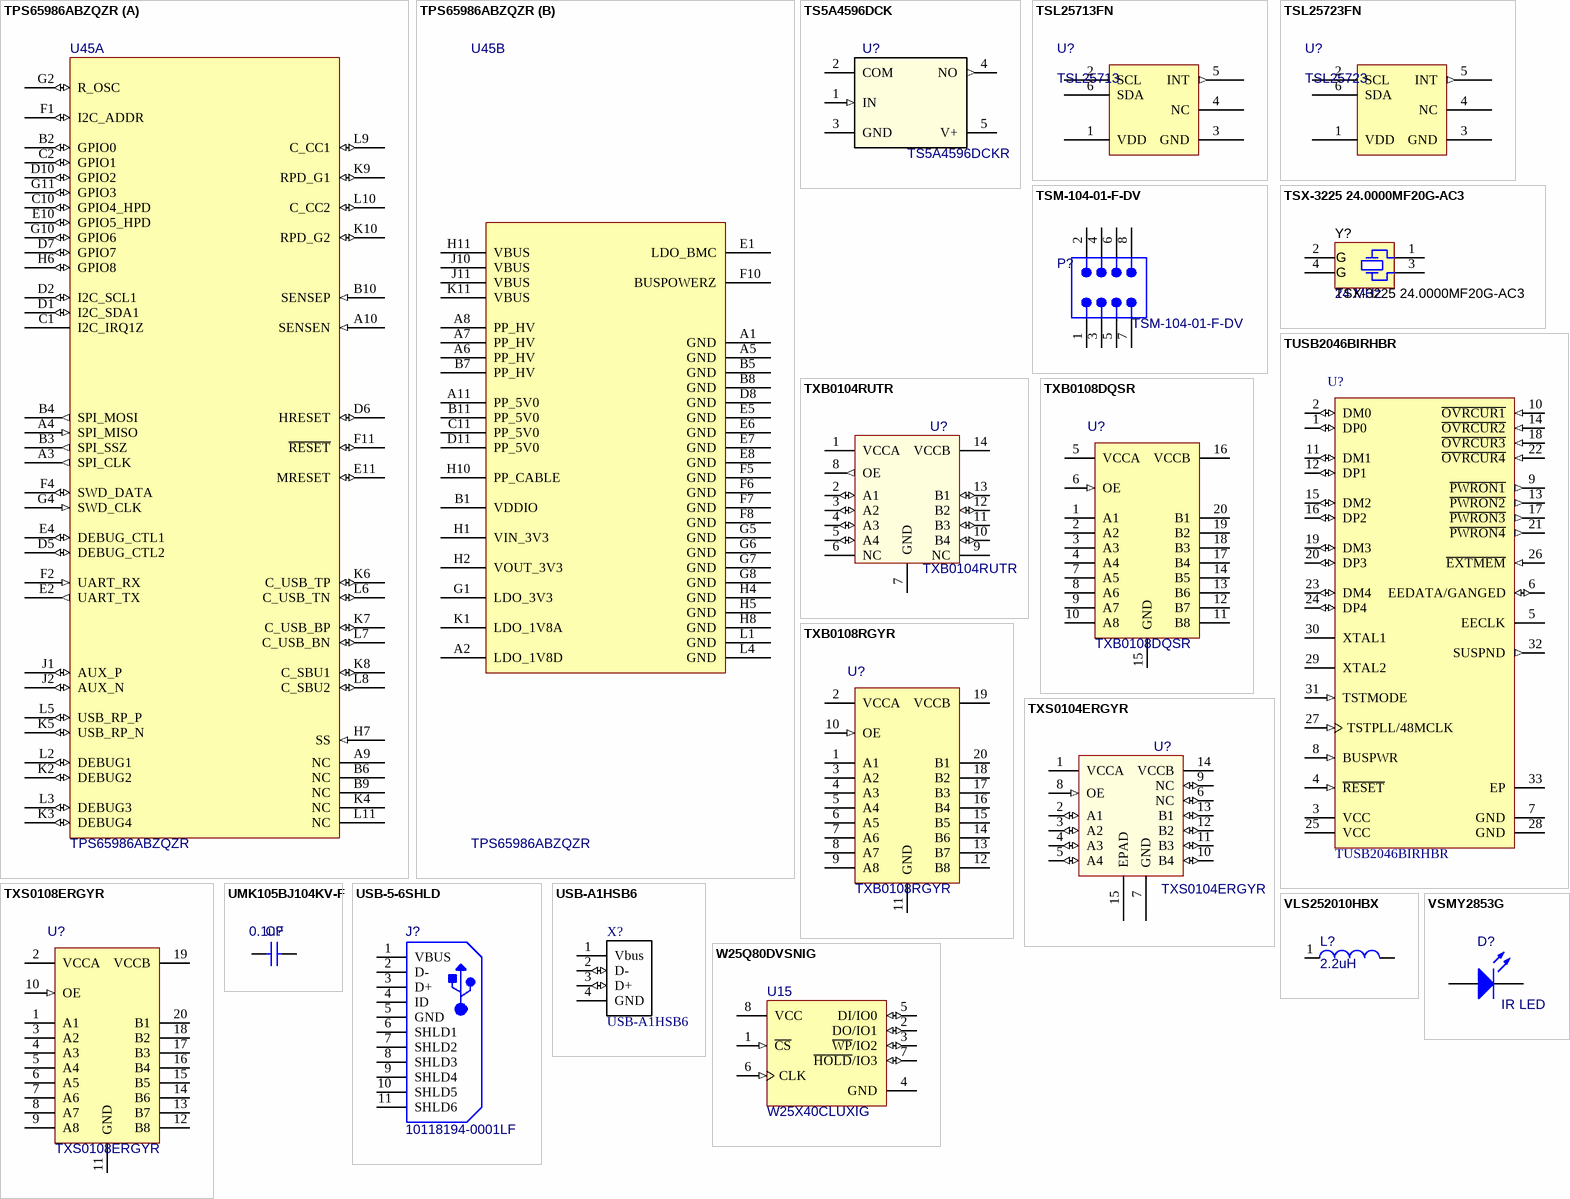
[diagram p20: symbols TPS65986ABZQZR to W25Q80DVSNIG]

## TPS65986ABZQZR
designator U45
IC PD CTLR USB TYPE-C 96BGA; Manufacturer 1: Texas Instruments; Manufacturer Part Number 1: TPS65986ABZQZR; PackageReference: ZQZ0096A; MountType: SMT; ComponentLink1URL: https://sps06.itg.ti.com/sites/KMS/crossdivteams/altium/docs/ComponentDatasheets/TPS65982_specification_0p94_Mechanical-ONLY.pdf; CompType: IC; ComponentLink1Description: Datasheet Link; Publisher: Texas Instruments; Value: TPS65986ABZQZR; Supplier 1: Digi-Key; Supplier Part Number 1: 296-43262-1-ND
footprint ZQZ0096A
footprint ZQZ0096A_Oval
footprint ZQZ0096A (BGA, 96-Leads, Body 6.0x6.0mm,  Pitch 0.50mm)
part A pins: A3 SPI_CLK (out), A4 SPI_MISO (in), A9 NC (oc), A10 SENSEN (in), B2 GPIO0 (io), B3 SPI_SSZ (out), B4 SPI_MOSI (out), B6 NC (oc), B9 NC (oc), B10 SENSEP (in), C1 I2C_IRQ1Z (oc), C2 GPIO1 (io), C10 GPIO4_HPD (io), D1 I2C_SDA1 (io), D2 I2C_SCL1 (io), D5 DEBUG_CTL2 (io), D6 HRESET (io), D7 GPIO7 (io), D10 GPIO2 (io), E2 UART_TX (out), E4 DEBUG_CTL1 (io), E10 GPIO5_HPD (io), E11 MRESET (io), F1 I2C_ADDR (io), F2 UART_RX (in), F4 SWD_DATA (io), F11 ~{RESET} (io), G2 R_OSC (io), G4 SWD_CLK (in), G10 GPIO6 (io), G11 GPIO3 (io), H6 GPIO8 (io), H7 SS (in), J1 AUX_P (io), J2 AUX_N (io), K2 DEBUG2 (io), K3 DEBUG4 (io), K4 NC (oc), K5 USB_RP_N (io), K6 C_USB_TP (io), K7 C_USB_BP (io), K8 C_SBU1 (io), K9 RPD_G1 (io), K10 RPD_G2 (io), L2 DEBUG1 (io), L3 DEBUG3 (io), L5 USB_RP_P (io), L6 C_USB_TN (io), L7 C_USB_BN (io), L8 C_SBU2 (io), L9 C_CC1 (io), L10 C_CC2 (io), L11 NC
part B pins: A1 GND (power), A2 LDO_1V8D (power), A5 GND (power), A6 PP_HV (power), A7 PP_HV (power), A8 PP_HV (power), A11 PP_5V0 (power), B1 VDDIO (power), B5 GND (power), B7 PP_HV (power), B8 GND (power), B11 PP_5V0 (power), C11 PP_5V0 (power), D8 GND (power), D11 PP_5V0 (power), E1 LDO_BMC (power), E5 GND (power), E6 GND (power), E7 GND (power), E8 GND (power), F5 GND (power), F6 GND (power), F7 GND (power), F8 GND (power), F10 BUSPOWERZ (power), G1 LDO_3V3 (power), G5 GND (power), G6 GND (power), G7 GND (power), G8 GND (power), H1 VIN_3V3 (power), H2 VOUT_3V3 (power), H4 GND (power), H5 GND (power), H8 GND (power), H10 PP_CABLE (power), H11 VBUS (power), J10 VBUS (power), J11 VBUS (power), K1 LDO_1V8A (power), K11 VBUS (power), L1 GND (power), L4 GND (power)
1 alternate drawing of the same symbol

## TS5A4596DCK
designator U?, comment TS5A4596DCKR
IC SWITCH SPST SC70-5; Vendor: Texas Instruments; Manufacturer1 Part Number: TS5A4596DCKR; Datasheet URL: http://www.ti.com/lit/gpn/TS5A4596; Manufacturer1: Texas Instruments; Value: TS5A4596DCKR; Supplier 1: Digi-Key; Supplier Part Number 1: 296-17710-1-ND
footprint SOT65P210X110-5N (SOT23, 5-Leads, Body 2.00x2.10mm, Pitch 0.65mm, IPC Medium Density)
pins: 1 IN (in), 2 COM, 3 GND (power), 4 NO (out), 5 V+ (power)

## TSL25713FN
designator U?, comment TSL25713
IC LIGHT SENSOR SOP8; Manufacturer 1: Taos; Manufacturer Part Number 1: TSL25713FN; Value: TSL25713; Supplier 1: Digi-Key; Supplier Part Number 1: TSL25713-FNCT-ND
footprint SON65P200X65-6N (SON, 6-Leads, Body 2.00x2.00mm, Pitch 0.65mm, IPC Medium Density)
pins: 1 VDD (power), 2 SCL (oc), 3 GND (power), 4 NC, 5 INT (out), 6 SDA (oc)

## TSL25723FN
designator U?, comment TSL25723
IC LIGHT SENSOR SOP8; Manufacturer 1: Taos; Manufacturer Part Number 1: TSL25723FN; Value: TSL25723; Supplier 1: Digi-Key; Supplier Part Number 1: TSL25723FNTR-ND
footprint SON65P200X65-6N (SON, 6-Leads, Body 2.00x2.00mm, Pitch 0.65mm, IPC Medium Density)
pins: 1 VDD (power), 2 SCL (oc), 3 GND (power), 4 NC, 5 INT (out), 6 SDA (oc)

## TSM-104-01-F-DV
designator P?
CONN HEADER .025 SQ. TERMINAL STRIPS; Manufacturer: Samtec; Pitch: 2.54 mm; ComponentLink1Description: Manufacturer URL; ComponentLink2URL: http://www.samtec.com/documents/webfiles/pdf/TSM.PDF; PackageDescription: Double Row Gullwing ASM; RoHS: True; Orientation: Vertical; ComponentLink2Description: Datasheet; ComponentLink1URL: http://www.samtec.com; ComponentLink3URL: http://www.samtec.com/documents/webfiles/cpdf/TSM-1XX-XX-XXX-XX-X-XXX-X-MKT.pdf; Mounting Technology: Surface Mount; PackageReference: TSM-104-01-X-DV; ComponentLink3Description: Package Specification; Manufacturer Part Number: TSM-104-01-F-DV
footprint SMTC-TSM-104-01-X-DV (Double Row Gullwing ASM, 2x4 Pins, Vertical, 2.54mm Pitch, Male)
pins: 1, 2, 3, 4, 5, 6, 7, 8

## TSX-3225 24.0000MF20G-AC3
designator Y?  Frequency: 24 MHz
CRYSTAL 24.0000MHZ 9PF SMD; Manufacturer: Epson; SymbolCreator: a0412235; U/M: EA; TaMin_C: -40; TaMax_C: 85; Frequency Stability: ±20ppm; SymbolVersion: 2011-08-23; PartNumber: TSX-3225 24.0000MF20G-AC3; CompType: Crystal; PackageReference: SMD, 4-Leads, Body 2.65x3.35mm, Height 0.6mm; MountType: SMT; RoHS: Y; ComponentLink1Description: Datasheet Link; ComponentLink1URL: http://www.eea.epson.com/portal/pls/portal/docs/1/1729491.PDF; Publisher: Texas Instruments; LatestRevisionDate: 2015-03-19; Supplier 1: Digi-Key; Supplier Part Number 1: SER3634CT-ND; Supplier 2: Mouser; Supplier Part Number 2: 732-TX325-24F20G-AC3
footprint EPSON_TSX-3225
pins: 1, 2 GND (power), 3, 4 GND (power)
text: G

## TUSB2046BIRHBR
designator U?
IC 4-PORT HUB FOR USB 32-QFN; Manufacturer 1: Texas Instruments; ComponentLink1URL: http://www.ti.com/general/docs/lit/getliterature.tsp?genericPartNumber=TUSB2046B&fileType=pdf; ComponentLink2Description: Package Specification; ComponentLink1Description: Datasheet; ComponentLink2URL: http://www.ti.com/litv/pdf/mpqf130c; Case/Package: QFN; Number of Pins: 32; Supplier 1: Digi-Key; Supplier Part Number 1: 296-21926-2-ND; Manufacturer Part Number 1: TUSB2046BIRHBR
footprint RHB32-3450X3450TP (QFN, 32-Leads, Body 5x5mm, Pitch 0.5mm, Thermal Pad 3.45x3.45mm, TI Recommended)
pins: 1 DP0 (io) "Root port USB differential data plus. DP0 paired with DM0 constitutes the upstream USB port.", 2 DM0 (io) "Root port USB differential data minus. DM0 paired with DP0 constitutes the upstream USB port.", 3 VCC (power) "3.3-V supply voltage", 4 ~{RESET} (in) "R\E\S\E\T\ is an active low TTL input with hysteresis and must be asserted at power up. When R\E\S\E\T\ is asserted, all logic is initialized. Generally, a reset with a pulse width between 100 us and 1 ms is recommended (See Datasheet)", 5 EECLK (hiz) "EEPROM serial clock. When E\X\T\M\E\M\ is high, the EEPROM interface is disabled. The EECLK terminal is disabled and must be left floating (unconnected). When E\X\T\M\E\M\ is low, EECLK acts as a 3-state serial clock output (See Datasheet)", 6 EEDATA/GANGED (io) "EEPROM serial data/power-management mode indicator. When E\X\T\M\E\M\ is high, EEDATA/GANGED selects between ganged or per-port power overcurrent detection for the downstream ports. When E\X\T\M\E\M\ is low, EEDATA/GANGED (See Datasheet)", 7 GND (power) "GND terminals must be tied to ground for proper operation.", 8 BUSPWR (in) "Power source indicator. BUSPWR is an active-high input that indicates whether the downstream ports source their power from the USB cable or a local power supply. For the bus-power mode, this terminal must be pulled to 3.3 V, (See Datasheet)", 9 ~{PWRON1} (out) "Power-on/-off control signals. P\W\R\O\N\1\-P\W\R\O\N\4\ are active low, push-pull outputs. Push-pull outputs eliminate the pullup resistors which open-drain outputs require. However, the external power switches that connect (See Datasheet)", 10 ~{OVRCUR1} (in) "Overcurrent input. O\V\R\C\U\R\1\-O\V\R\C\U\R\4\are active low. For per-port overcurrent detection, one overcurrent input is available for each of the four downstream ports. In the ganged mode, any O\V\R\C\U\R\ input may be (See Datasheet)", 11 DM1 (io) "USB differential data minus. DM1-DM4 paired with DP1-DP4 support up to four downstream USB ports.", 12 DP1 (io) "USB differential data plus. DP1-DP4 paired with DM1-DM4 support up to four downstream USB ports.", 13 ~{PWRON2} (out) "Power-on/-off control signals. P\W\R\O\N\1\-P\W\R\O\N\4\ are active low, push-pull outputs. Push-pull outputs eliminate the pullup resistors which open-drain outputs require. However, the external power switches that connect (See Datasheet)", 14 ~{OVRCUR2} (in) "Overcurrent input. O\V\R\C\U\R\1\-O\V\R\C\U\R\4\are active low. For per-port overcurrent detection, one overcurrent input is available for each of the four downstream ports. In the ganged mode, any O\V\R\C\U\R\ input may be (See Datasheet)", 15 DM2 (io) "USB differential data minus. DM1-DM4 paired with DP1-DP4 support up to four downstream USB ports.", 16 DP2 (io) "USB differential data plus. DP1-DP4 paired with DM1-DM4 support up to four downstream USB ports.", 17 ~{PWRON3} (out) "Power-on/-off control signals. P\W\R\O\N\1\-P\W\R\O\N\4\ are active low, push-pull outputs. Push-pull outputs eliminate the pullup resistors which open-drain outputs require. However, the external power switches that connect (See Datasheet)", 18 ~{OVRCUR3} (in) "Overcurrent input. O\V\R\C\U\R\1\-O\V\R\C\U\R\4\are active low. For per-port overcurrent detection, one overcurrent input is available for each of the four downstream ports. In the ganged mode, any O\V\R\C\U\R\ input may be (See Datasheet)", 19 DM3 (io) "USB differential data minus. DM1-DM4 paired with DP1-DP4 support up to four downstream USB ports.", 20 DP3 (io) "USB differential data plus. DP1-DP4 paired with DM1-DM4 support up to four downstream USB ports.", 21 ~{PWRON4} (out) "Power-on/-off control signals. P\W\R\O\N\1\-P\W\R\O\N\4\ are active low, push-pull outputs. Push-pull outputs eliminate the pullup resistors which open-drain outputs require. However, the external power switches that connect (See Datasheet)", 22 ~{OVRCUR4} (in) "Overcurrent input. O\V\R\C\U\R\1\-O\V\R\C\U\R\4\are active low. For per-port overcurrent detection, one overcurrent input is available for each of the four downstream ports. In the ganged mode, any O\V\R\C\U\R\ input may be (See Datasheet)", 23 DM4 (io) "USB differential data minus. DM1-DM4 paired with DP1-DP4 support up to four downstream USB ports.", 24 DP4 (io) "USB differential data plus. DP1-DP4 paired with DM1-DM4 support up to four downstream USB ports.", 25 VCC (power) "3.3-V supply voltage", 26 ~{EXTMEM} (in) "When E\X\T\M\E\M\ is high, the serial EEPROM interface of the device is disabled. When E\X\T\M\E\M\ is low, terminals 5 and 6 are configured as the clock and data terminals of the serial EEPROM interface, respectively.", 27 TSTPLL/48MCLK (in) "Test/48-MHz clock input. TSTPLL/48MCLK is used as a test terminal during production testing. This terminal must be tied to ground for normal 6-MHz operation. If 48-MHz input clock is desired, a 48-MHz clock source (no (See Datasheet)", 28 GND (power) "GND terminals must be tied to ground for proper operation.", 29 XTAL2 "Crystal 2. XTAL2 is a 6-MHz crystal output. This terminal must be left open when using an oscillator.", 30 XTAL1 "Crystal 1. XTAL1 is a 6-MHz crystal input with 50% duty cycle. An internal PLL generates the 48-MHz and 12-MHz clocks used internally by the ASIC logic.", 31 TSTMODE (in) "Test/mode terminal. TSTMODE is used as a test terminal during production testing. This terminal must be tied to ground or 3.3-V VCC for normal 6-MHz or 48-MHz operation, respectively.", 32 SUSPND (out) "Suspend status. SUSPND is an active high output available for external logic power-down operations. During the suspend mode, SUSPND is high. SUSPND is low for normal operation.", 33 EP "Exposed Pad"

## TXB0104RUTR
designator U?
IC TRNSLTR BIDIRECTIONAL 12UQFN; Manufacturer 1: Texas Instruments; Manufacturer Part Number 1: TXB0104RUTR; Value: TXB0104RUTR; Supplier 1: Digi-Key; Supplier Part Number 1: 296-25888-1-ND
footprint RGY14_2P05X2P05 (14-VQFN)
pins: 1 VCCA (power), 2 A1 (io), 3 A2 (io), 4 A3 (io), 5 A4 (io), 6 NC, 7 GND (power), 8 OE (out), 9 NC, 10 B4 (io), 11 B3 (io), 12 B2 (io), 13 B1 (io), 14 VCCB (power)

## TXB0108DQSR
designator U?
IC 8-BIT TRNSLTR 15KV ESD 20USON; Manufacturer 1: Texas Instruments; CMT Part Number: 100211; Value: TXB0108DQSR; Manufacturer Part Number 1: TXB0108DQSR; Supplier 1: Newark; Supplier Part Number 1: 87W8602; Supplier 2: Digi-Key; Supplier Part Number 2: 296-27217-1-ND
footprint SON40P200X100-20N (SON, 20-Leads, Body 4.00x2.00mm, Pitch 0.40mm, IPC Medium Density)
pins: 1 A1, 2 A2, 3 A3, 4 A4, 5 VCCA (power), 6 OE (in), 7 A5, 8 A6, 9 A7, 10 A8, 11 B8, 12 B7, 13 B6, 14 B5, 15 GND (power), 16 VCCB (power), 17 B4, 18 B3, 19 B2, 20 B1

## TXB0108RGYR
designator U?
IC 8-BIT TRNSLTR 15KV ESD 20VQFN; Manufacturer 1: Texas Instruments; Value: TXB0108RGYR; Manufacturer Part Number 1: TXB0108RGYR; Supplier 1: Digi-Key; Supplier Part Number 1: 296-21528-1-ND
footprint QFN50P450X346X100_HS-21N (QFN, 20-Leads, Body 4.50x3.46mm, Pitch 0.50mm/1.50mm, Thermal Pad 1.60x1.60mm, IPC Medium Density)
pins: 1 A1, 2 VCCA (power), 3 A2, 4 A3, 5 A4, 6 A5, 7 A6, 8 A7, 9 A8, 10 OE (in), 11 GND (power), 12 B8, 13 B7, 14 B6, 15 B5, 16 B4, 17 B3, 18 B2, 19 VCCB (power), 20 B1

## TXS0104ERGYR
designator U?
IC TRNSLTR BIDIRECTIONAL 14VQFN; Manufacturer 1: Texas Instruments; Manufacturer Part Number 1: TXS0104ERGYR; Value: TXS0104ERGYR; Supplier 1: Digi-Key; Supplier Part Number 1: 296-20698-1-ND
footprint RGY14_2P05X2P05 (14-VQFN)
pins: 1 VCCA (power), 2 A1 (io), 3 A2 (io), 4 A3 (io), 5 A4 (io), 6 NC (io), 7 GND (power), 8 OE (in), 9 NC (io), 10 B4 (io), 11 B3 (io), 12 B2 (io), 13 B1 (io), 14 VCCB (power), 15 EPAD (power)

## TXS0108ERGYR
designator U?
IC TRNSLTR BIDIRECTIONAL 20VQFN; Manufacturer 1: Texas Instruments; Value: TXS0108ERGYR; Manufacturer Part Number 1: TXS0108ERGYR; Supplier 1: Digi-Key; Supplier Part Number 1: 296-24806-1-ND
footprint *QFN50P450X350X100-21N
pins: 1 A1, 2 VCCA (power), 3 A2, 4 A3, 5 A4, 6 A5, 7 A6, 8 A7, 9 A8, 10 OE (in), 11 GND (power), 12 B8, 13 B7, 14 B6, 15 B5, 16 B4, 17 B3, 18 B2, 19 VCCB (power), 20 B1

## UMK105BJ104KV-F
designator C?, comment 0.1uF
CAP CER 0.1UF 50V X5R 0402; Manufacturer Part Number 1: UMK105BJ104KV-F; Manufacturer 1: Taiyo Yuden; Part Type: Chip Capacitor; Supplier 1: Digi-Key; Supplier Part Number 1: 587-3499-1-ND; Value: 0.1uF
footprint CAPC3216L (Chip Capacitor, Body 3.2x1.6mm, IPC High Density)
footprint CAPC1005L (Chip Capacitor, Body 1.0x0.5mm, IPC High Density)
footprint CAPC2512L (Chip Capacitor, Body 2.54x1.27mm, IPC High Density)
footprint CAPC1608L (Chip Capacitor, Body 1.6x0.8mm, IPC High Density)
footprint CAPC3225L (Chip Capacitor, Body 3.2x2.5mm, IPC High Density)
simulation model CAP (Semiconductor Capacitor)
signal-integrity model Cap Semi
footprint 01005-TIGHT
footprint 0201-TIGHT
footprint 0402-TIGHT (For packing)
footprint 0402 Capacitor
footprint 0402CS-RADIO
pins: 1, 2

## USB-5-6SHLD
designator J?, comment 10118194-0001LF
CONN RCPT USB2.0 MICRO B SMD R/A; Manufacturer 1: Amphenol FCI; Connector Type: Receptacle,USB; Supplier 1: RSComponents; Manufacturer Part Number 1: 10118194-0001LF; Supplier Part Number 1: 1370996; Value: 10118194-0001LF; CMT Part Number: *
footprint FCI-10118194-0001LF-5_V (SMD, 5-Leads, Body 7x5mm, Pitch 0.65 mm)
pins: 1 VBUS, 2 D-, 3 D+, 4 ID, 5 GND, 6 SHLD1, 7 SHLD2, 8 SHLD3, 9 SHLD4, 10 SHLD5, 11 SHLD6

## USB-A1HSB6
designator X?
CONN RCPT TYPEA 4POS R/A; MF: On Shore; Digi-Key_Purchase_URL: https://www.digikey.ca/product-detail/en/on-shore-technology-inc/USB-B1HSB6/ED2983-ND/2677744?utm_source=snapeda&utm_medium=aggregator&utm_campaign=symbol; Digi-Key_Part_Number: ED2990-ND; Package: None; SnapEDA_Link: https://www.snapeda.com/parts/USB-B1HSB6/On%20Shore%20Technology%20Inc./view-part/?ref=snap; MP: USB-A1HSB6; Value: *
footprint USBA1HSW6
pins: 1 Vbus (power), 2 D- (io), 3 D+ (io), 4 GND (power)

## VLS252010HBX
designator L?, comment 2.2uH
FIXED IND 2.2UH 1.76A 120 MOHM; Manufacturer 1: TDK; Manufacturer Part Number 1: VLS252010HBX-2R2M-1; CMT Part Number: 100235; DC Resistance (DCR): 120mR; Case/Package: 1008; Supplier 1: Digi-Key; Supplier Part Number 1: 445-172399-6-ND; Value: 2.2uH
footprint VLS252010HBX (Chip Inductor, 2-Leads, Body 2.50x2.00mm, IPC Medium Density)
pins: 1, 2

## VSMY2853G
designator D?, comment IR LED
LED IR 850NM 100MA, 56 deg SMD; Manufacturer Part Number 1: VSMY2853G; Manufacturer 1: Vishay; CMT Part Number: 100269; Supplier 1: Digi-Key; Supplier Part Number 1: VSMY2853GCT-ND; Value: IR LED
simulation model LED3 (Diode)
signal-integrity model LED
footprint VSMY2853G (Vishay LED)
pins: 1 A, 2 K

## W25Q80DVSNIG
designator U15, comment W25X40CLUXIG
IC FLASH 4MBIT 104MHZ 8USON; Manufacturer 1: Winbond; Value: W25X40CLUXIG; Manufacturer Part Number 1: W25X40CLUXIG; Supplier 1: Digi-Key; Supplier Part Number 1: W25X40CLUXIGCT-ND
footprint SON50P300X50_HS-9N (SON, 8-Leads, Body 2.00x3.00mm, Pitch 0.50mm, Thermal Pad 1.90x0.5mm, IPC Medium Density)
footprint SOIC-8M
footprint SOIC-8L
pins: 1 ~{CS} (in), 2 DO/IO1 (io), 3 ~{WP}/IO2 (io), 4 GND (power), 5 DI/IO0 (io), 6 CLK (in), 7 ~{HOLD}/IO3 (io), 8 VCC (power)

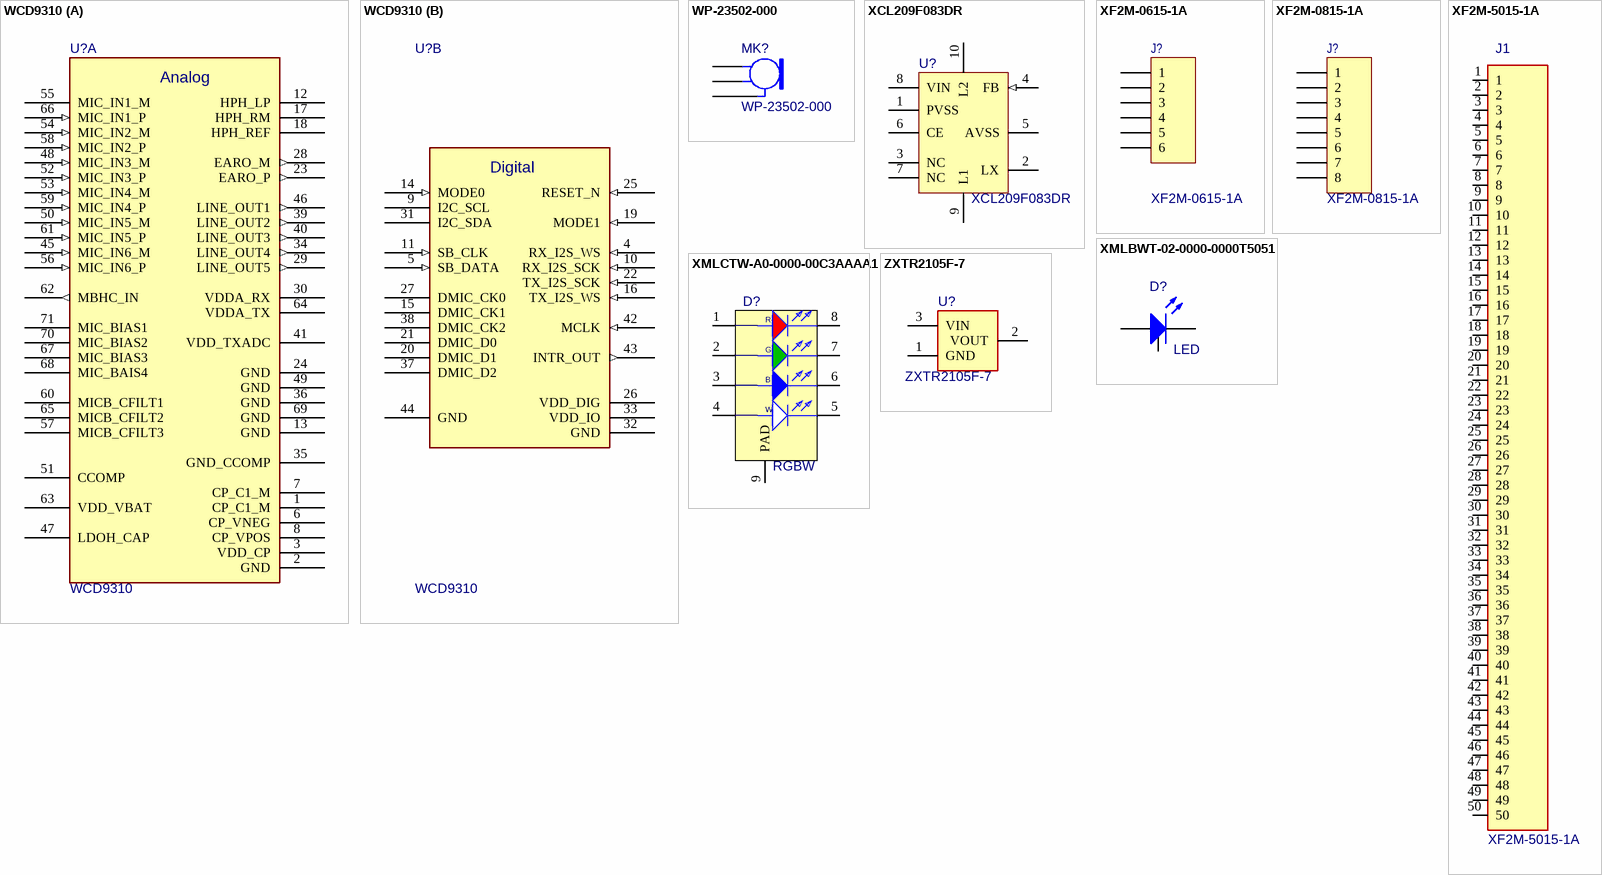
[diagram p21: symbols WCD9310 to ZXTR2105F-7]

## WCD9310
designator U?
IC AUDIO CODEC WLNSP71; Manufacturer 1: Qualcomm; Manufacturer Part Number 1: WCD-9310-0-71WLNSP-SR-02-0; Value: WCD9310; Supplier 1: Simcomm; Supplier Part Number 1: WCD-9310-0-71WLNSP-SR-02-0
footprint BGAS71C28P14X11_377X320X62 (BGA, 71-Leads, Body 3.77x3.20mmx0.63mm, Pitch 0.28mm)
part A pins: 1 CP_C1_M, 2 GND (power), 3 VDD_CP (power), 6 CP_VNEG, 7 CP_C1_M, 8 CP_VPOS, 12 HPH_LP, 13 GND (power), 17 HPH_RM, 18 HPH_REF, 23 EARO_P (out), 24 GND (power), 28 EARO_M (out), 29 LINE_OUT5 (out), 30 VDDA_RX (power), 34 LINE_OUT4 (out), 35 GND_CCOMP (power), 36 GND (power), 39 LINE_OUT2 (out), 40 LINE_OUT3 (out), 41 VDD_TXADC (power), 45 MIC_IN6_M (in), 46 LINE_OUT1 (out), 47 LDOH_CAP, 48 MIC_IN3_M (in), 49 GND (power), 50 MIC_IN5_M (in), 51 CCOMP, 52 MIC_IN3_P (in), 53 MIC_IN4_M (in), 54 MIC_IN2_M (in), 55 MIC_IN1_M (power), 56 MIC_IN6_P (in), 57 MICB_CFILT3, 58 MIC_IN2_P (in), 59 MIC_IN4_P (in), 60 MICB_CFILT1, 61 MIC_IN5_P (in), 62 MBHC_IN (out), 63 VDD_VBAT (power), 64 VDDA_TX (power), 65 MICB_CFILT2, 66 MIC_IN1_P (in), 67 MIC_BIAS3 (power), 68 MIC_BAIS4 (power), 69 GND (power), 70 MIC_BIAS2 (power), 71 MIC_BIAS1 (power)
part B pins: 4 RX_I2S_WS (in), 5 SB_DATA (in), 9 I2C_SCL (oc), 10 RX_I2S_SCK (in), 11 SB_CLK (in), 14 MODE0 (in), 15 DMIC_CK1, 16 TX_I2S_WS (in), 19 MODE1 (in), 20 DMIC_D1, 21 DMIC_D0, 22 TX_I2S_SCK (in), 25 RESET_N (in), 26 VDD_DIG (power), 27 DMIC_CK0, 31 I2C_SDA (oc), 32 GND (power), 33 VDD_IO (power), 37 DMIC_D2, 38 DMIC_CK2, 42 MCLK (in), 43 INTR_OUT (out), 44 GND (power)
part A text: Analog
part B text: Digital

## WP-23502-000
designator MK?
MIC COND ANALOG OMNI -52DB; Manufacturer 1: Knowles Acoustic; Manufacturer Part Number 1: WP-23502-000; Part Type: Microphone; Value: WP-23502-000; Supplier 1: Digi-Key; Supplier Part Number 1: 423-1012-ND; Supplier 2: Mouser; Supplier Part Number 2: 721-WP-23502-000
footprint PIN2 (Microphone; 2 Leads)
footprint WP-23502-000
pins: 1 VDD (power), 2 OUT+, 3 OUT-

## XCL209F083DR
designator U?
IC STEP DOWN DC/DC 0.8V USP10B03; Manufacturer 1: Torex; Manufacturer Part Number 1: XCL209F083DR; Value: XCL209F083DR; Supplier 1: Digi-Key; Supplier Part Number 1: 893-1172-1-ND
footprint PSON65P220X100_HS-9N (PSON, 8-Leads, Body 2.50x2.15mm, Pitch 0.65mm, Thermal Pad 2.30x1.05mm, IPC Medium Density)
pins: 1 PVSS (power), 2 LX, 3 NC, 4 FB (in), 5 AVSS, 6 CE, 7 NC, 8 VIN, 9 L1, 10 L2

## XF2M-0615-1A
designator J?
CONN FPC 6POS 0.5MM SMD R/A; Manufacturer 1: OMRON; Manufacturer Part Number 1: XF2M-0615-1A; Value: XF2M-0615-1A; Supplier 1: Digi-Key; Supplier Part Number 1: OR1110CT-ND; Supplier 2: Mouser; Supplier Part Number 2: 653-XF2M-0615-1A
signal-integrity model Connector
footprint XF2M-0615-1A (CONN FPC 6POS 0.5MM SMD R/A)
pins: 1, 2, 3, 4, 5, 6

## XF2M-0815-1A
designator J?
CONN FPC 8POS 0.5MM SMD R/A; Manufacturer 1: OMRON; Manufacturer Part Number 1: XF2M-0815-1A; Value: XF2M-0815-1A; Supplier 1: Digi-Key; Supplier Part Number 1: OR1109CT-ND; Supplier 2: Mouser; Supplier Part Number 2: 653-XF2M-0815-1A
signal-integrity model Connector
footprint XF2M-0815-1A (CONN FPC 8POS 0.5MM SMD R/A)
pins: 1, 2, 3, 4, 5, 6, 7, 8

## XF2M-5015-1A
designator J1
CONN FPC 50POS 0.5MM PITCH SMD; Manufacturer 1: OMRON; Manufacturer Part Number 1: XF2M-5015-1A; Part Type: Connnector; Supplier 1: Digi-Key; Supplier Part Number 1: OR732CT-ND; Supplier 2: Mouser; Supplier Part Number 2: 653-XF2M-5015-1A; Value: XF2M-5015-1A
footprint XF2M-5015-1A
pins: 1, 2, 3, 4, 5, 6, 7, 8, 9, 10, 11, 12, 13, 14, 15, 16, 17, 18, 19, 20, 21, 22, 23, 24, 25, 26, 27, 28, 29, 30, 31, 32, 33, 34, 35, 36, 37, 38, 39, 40, 41, 42, 43, 44, 45, 46, 47, 48, 49, 50

## XMLBWT-02-0000-0000T5051
designator D?, comment LED
LED COOL WHITE XLAMP SMD; Manufacturer Part Number 1: XMLBWT-02-0000-0000T5051; Manufacturer 1: Cree; Supplier 1: Digi-Key; Supplier Part Number 1: XMLBWT-02-0000-0000T5051CT-ND; Supplier 2: Mouser; Supplier Part Number 2: 941-XMLBWT0200T5051; Value: LED
simulation model LED3 (Diode)
signal-integrity model LED
footprint XM-L2 (Cree XM LED package)
pins: 1 A, 2 K, 3 T

## XMLCTW-A0-0000-00C3AAAA1
designator D?, comment value RGBW  (hidden comment: RGB LED)
LED RED/GREEN/BLUE/WHITE PLCC4 SMD; Manufacturer 1: Cree; Manufacturer Part Number 1: XMLCTW-A0-0000-00C3AAAA1; Part Type: LED
footprint SON126P500X300_HS-9N (SON, 8-Leads, Body 5.00x5.00mm, Pitch 1.26mm, Thermal Pad 4.78x2.78mm, IPC Medium Density)
pins: 1 R_A, 2 G_A, 3 B_A, 4 W_A, 5 W_C, 6 B_C, 7 G_C, 8 R_C, 9 PAD
text: R; G; B; W

## ZXTR2105F-7
designator U?
IC REG LDO 3.3V 0.25A SOT23-3; Manufacturer1: Diodes Inc; Manufacturer Part Number1: ZXTR2105F-7; Part Type: IC; Supplier 1: Digi-Key; Supplier Part Number 1: ZXTR2105F-7DICT-ND; Value: ZXTR2105F-7
footprint SOT95P230X109-3N
pins: 1 GND, 2 VOUT, 3 VIN